# Altium schematic symbol library FYDP_library_sch.SchLib: 21 symbols
Pins are listed as number, name and electrical type; pins without a type are passive.

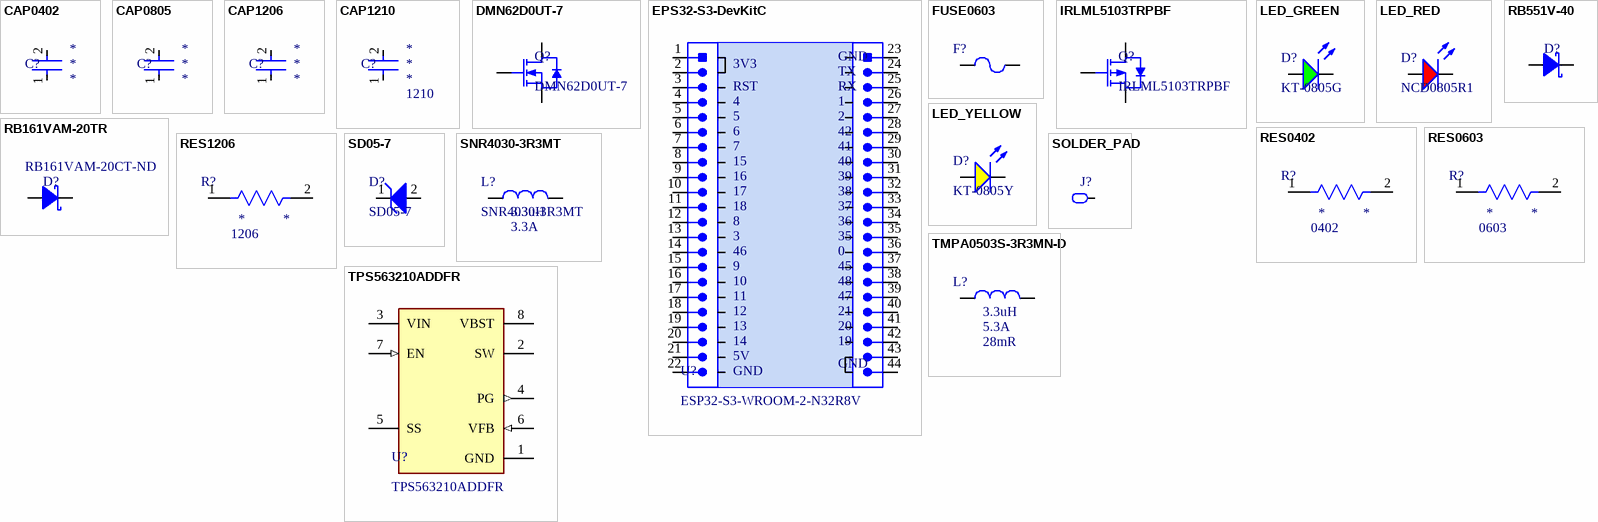
[diagram p0: symbols CAP0402 to TPS563210ADDFR]

## CAP0402
designator C?
CAP0402; Tolerance: *; Manufacturer: *; Manufacturer Part Number: *; Package: 0402; Dielectric: *; Voltage Rating: *; Capacitance: *
footprint CAP0402
pins: 1, 2

## CAP0805
designator C?
CAP0805; Tolerance: *; Manufacturer: *; Manufacturer Part Number: *; Package: 0805; Dielectric: *; Voltage Rating: *; Capacitance: *
footprint CAP0805
pins: 1, 2

## CAP1206
designator C?
CAP1206; Tolerance: *; Manufacturer: *; Manufacturer Part Number: *; Package: 1206; Dielectric: *; Voltage Rating: *; Capacitance: *
footprint CAP1206 (Chip Capacitor, Body 3.2x1.6mm, Height 0.55mm, IPC Medium Density)
pins: 1, 2

## CAP1210
designator C?  Package: 1210
CAP1210; Tolerance: *; Manufacturer: *; Manufacturer Part Number: *; Dielectric: *; Voltage Rating: *; Capacitance: *
footprint CAP1210
pins: 1, 2

## DMN62D0UT-7
designator Q?
NFET 60 V 320mA (Ta) 230mW (Ta) Surface Mount SOT-523; Vdss: 60V; Vgs(th) (Max) @ Id: 1V @ 250uA; Vgs (Max): ±20V; Supplier 1: Digikey; Supplier Part Number 1: DMN62D0UT-7DICT-ND; Package: SOT-523; Id @ 25°C: 320mA
footprint SOT-523
pins: 1 GATE, 2 SOURCE, 3 DRAIN

## EPS32-S3-DevKitC
designator U?, comment ESP32-S3-WROOM-2-N32R8V
footprint EPS32-S3-DevKitC
pins: 1, 2, 3, 4, 5, 6, 7 6, 8 6, 9, 10, 11, 12, 13, 14, 15, 16, 17, 18, 19, 20, 21, 22, 23, 24, 25, 26, 27, 28, 29, 30, 31, 32, 33, 34, 35, 36, 37, 38, 39, 40, 41, 42, 43, 44
text: GND; 3V3; TX; RST; RX; 46; 0; 45; 48; 47; 5V

## FUSE0603
designator F?  (value not drawn)
Manufacturer: *; Manufacturer Part Number: *; Package: 0603; Current Rating: *; Voltage Rating: *
footprint FUSE_0603 (Chip Fuse, Body 1.6x0.81mm)
pins: 1, 2

## IRLML5103TRPBF
designator Q?
P-Channel 30 V 760mA (Ta) 540mW (Ta) Surface Mount Micro3™/SOT-23; Manufacturer 1: Infineon Technologies; Vdss: 30V; Vgs (Max): ±20V; Power Dissipation (Max): 540mW (Ta); Mounting Type: SMD; Id: 760mA; Manufacturer Part Number 1: IRLML5103TRPBF; Supplier 1: Mouser; Supplier Part Number 1: 942-IRLML5103TRPBF
footprint SOT23-3 (SOT23, 3-Leads, Body 2.90x2.30mm, Pitch 0.95mm, IPC Medium Density)
pins: 1 Gate, 2 Source, 3 Drain

## LED_GREEN
designator D?, comment KT-0805G
Emerald 0805  Light Emitting Diodes (LED) ROHS; Manufacturer: Hubei KENTO Elec; Vf: 2.1V; If rated: 20mA; Manufacturer Part Number: KT-0805G
footprint LED_0805_GREEN (SMD, 2-Leads, Body 2x1.25mm)
pins: 1 K, 2 A

## LED_RED
designator D?, comment NCD0805R1
Colorless transparence 67mcd~195mcd -30℃~+85℃ 615nm~630nm Red 130° 65mW 0805  Light Emitting Diodes (LED) ROHS; Manufacturer: Foshan NationStar Optoelectronics; Vf: 2.0V; If rated: 25mA; Manufacturer Part Number: NCD0805R1
footprint LED_0805_RED (SMD, 2-Leads, Body 2x1.25mm)
pins: 1 K, 2 A

## LED_YELLOW
designator D?, comment KT-0805Y
Yellow 0805  Light Emitting Diodes (LED) ROHS; Manufacturer: Hubei KENTO Elec; Vf: 2.1V; If rated: 20mA; Manufacturer Part Number: KT-0805Y
footprint LED_0805_YELLOW (SMD, 2-Leads, Body 2x1.25mm)
pins: 1 K, 2 A

## RB161VAM-20TR
designator D?  Supplier Part Number 1: RB161VAM-20CT-ND  (hidden comment: RB161VAM-20TR)
Diode 20 V 1A Surface Mount TUMD2M; Manufacturer 1: Rohm Semiconductor; Vr (Max): 20V; Vf (Max): 420mV @ 1A; Manufacturer Part Number 1: RB161VAM-20TR; Mounting Type: SMD; Io: 1A; Package/Footprint: TUMD2M; Supplier 1: Digikey
footprint TUMD2M (SOD-323HE)
pins: 1 Cathode, 2 Anode

## RB551V-40
designator D?  (value not drawn)
40V 470mV@500mA 0.5A SOD-323  Schottky Barrier Diodes (SBD) ROHS; Manufacturer: Taiwan Semiconductor; Vf (Max): 470mV @ 0.5A; Manufacturer Part Number: RB551V-40; Mounting Type: SMD; Vr (Max): 40V; Io: 0.5A; Package/Footprint: SOD-323
footprint SOD-323
pins: 1 Cathode, 2 Anode

## RES0402
designator R?  Package: 0402  (hidden comment: *)
RES 0402; Power Rating: *; Manufacturer: *; Manufacturer Part Number: *; Tolerance: *; Resistance: *
footprint RES0402
pins: 1, 2

## RES0603
designator R?  Package: 0603
RES 0603; Power Rating: *; Manufacturer: *; Manufacturer Part Number: *; Tolerance: *; Resistance: *
footprint RES0603
pins: 1, 2

## RES1206
designator R?  Package: 1206  (hidden comment: *)
RES1206; Power Rating: *; Manufacturer: *; Manufacturer Part Number: *; Tolerance: *; Resistance: *
footprint RES1206 (Chip Resistor, Body 3.2x1.6mm, IPC Medium Density)
pins: 1, 2

## SD05-7
designator D?
TVS UNI14.5V 6.2V 5V SOD-323; Manufacturer: Diodes Incorporated; Clamping Voltage: 14.5V; Breakdown Voltage: 6.2V; Reverse Standoff Voltage: 5V; Package: SOD-323; Manufacturer Part Number: SD05-7
footprint SD05-7 (SOD-323)
pins: 1, 2

## SNR4030-3R3MT
designator L?  Saturation Current (Isat): 3.3A  Inductance: 3.3uH
INDUCTOR 3.3uH ±20% 3.3A SMD,4x4mm ROHS; Manufacturer: LanTu Micro; DC Resistance (DCR): 50mΩ; Supplier: JLCPCB; Manufacturer Part Number: SNR4030-3R3MT; Tolerance: ±20%
footprint SMD4030
pins: 1, 2

## SOLDER_PAD
designator J?  (value not drawn)
footprint SOLDER_PAD
pins: 1

## TMPA0503S-3R3MN-D
designator L?  DC Resistance: 28mR  Isat(min): 5.3A  Inductance: 3.3uH  (hidden comment: TMPA0503S-3R3MN-D)
INDUCTOR 5.3A 3.3uH ±20% SMD Power Inductors ROHS; Manufacturer: TAI-TECH; Manufacturer Part Number: TMPA0503S-3R3MN-D; Tolerance: 20%
footprint TMPA0503S-3R3MN-D
pins: 1, 2

## TPS563210ADDFR
designator U?
IC REG BUCK ADJ 3A SOT-23-8; Manufacturer: Texas Instruments; Supplier 1: Mouser; Supplier Part Number 1: 595-TPS563210ADDFR; Manufacturer Part Number: TPS563210ADDFR
footprint TPS563210ADDFR (SOT-23-8)
pins: 1 GND, 2 SW, 3 VIN, 4 PG (out), 5 SS, 6 VFB (in), 7 EN (in), 8 VBST